# Altium footprint library Antennas.PcbLib: 1 footprints
Each footprint in its own frame and in the unit in brackets; x right, y up, seen from the top. Pads: shape width x height; smd on the part's side, far side on the other; paste and mask are expansions set on the pad; w line width, h text height; cw(c..) or ccw(c..) is an arc to the next point about the centre after c.
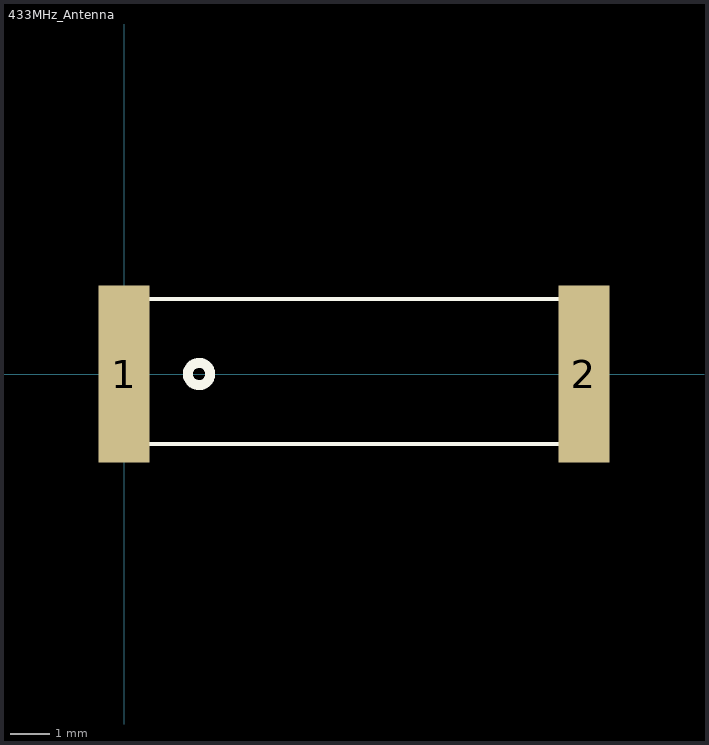
[diagram p0: the footprint, top view; thin cyan lines are the x and y axes]

## 433MHz_Antenna [mm] "ANT1204F002R0433A"
pads (2):
  rect 1.3x4.5 smd: 1(0,0) 2(11.7,0)
Top Overlay:
  circle w0.254: c1.905,0 r0.284
  lines w0.1: 0,-1.778 0,1.905 11.811,1.905 11.811,-1.778 0,-1.778